# Altium schematic symbol library dcbuddy_lite_v1.SCHLIB: 33 symbols
Pins are listed as number, name and electrical type; pins without a type are passive.

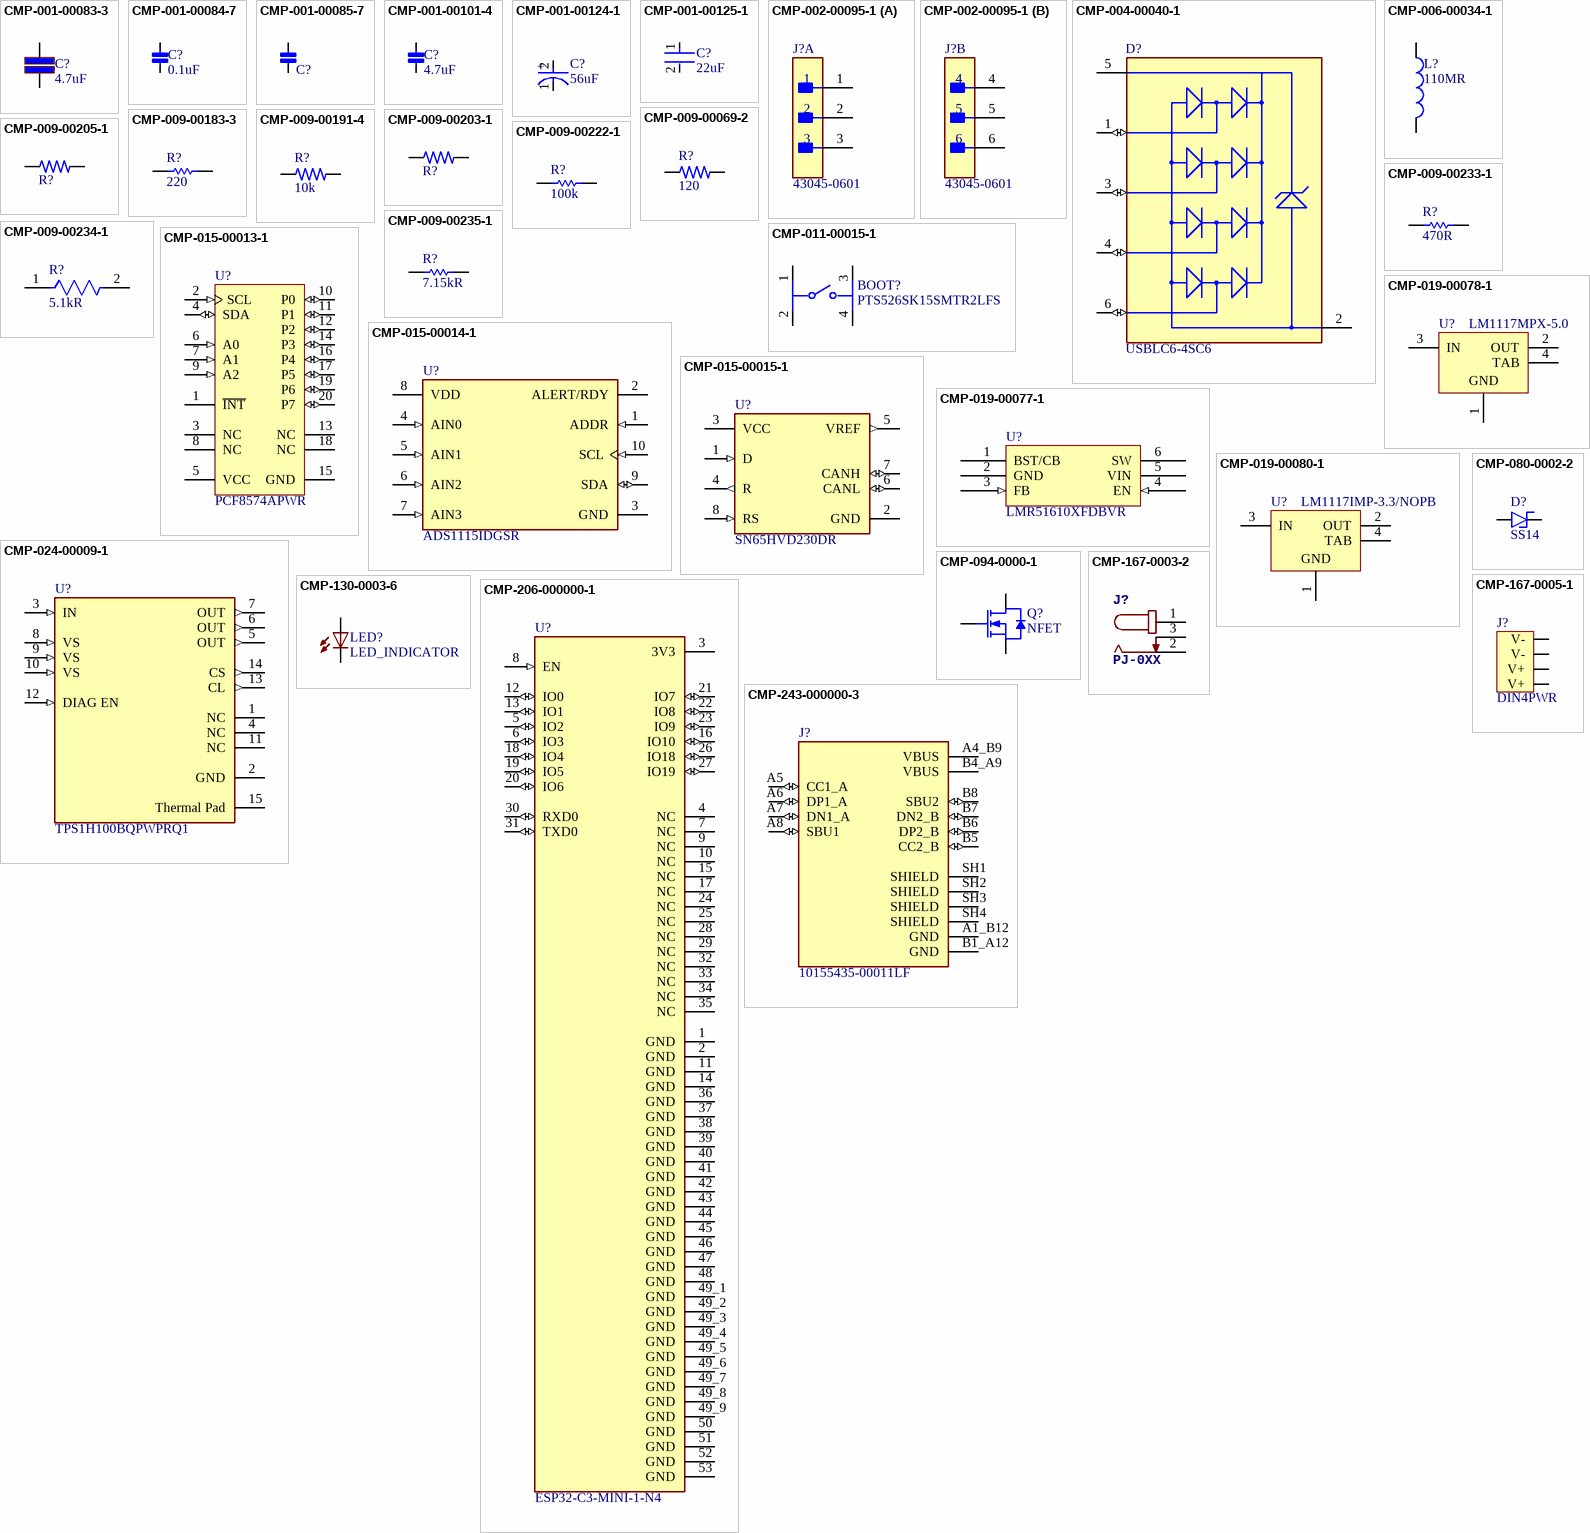
[diagram p0: symbols CMP-001-00083-3 to CMP-243-000000-3]

## CMP-001-00083-3
designator C?, comment value 4.7uF  (hidden comment: CAP 4.7uF 50V X7R 1210)
CAP CER 4.7UF 50V X7R 1210; Manufacturer: Samsung; Manufacturer Part Number: CL32B475KBUYNNE; Tolerance: 10%; Material: Ceramic; Voltage: 50V; Capacitance: 4.7uF; Width: 0.098inch; Height: 1.8mm; Depth: 2.5mm; Package Quantity: 1; Case/Package: 1210; Case Code (Imperial): 1210; Contact Plating: Tin; Thickness: 0.079inch; Radiation Hardening: No; Voltage Rating: 50V; Packaging: Tape and Reel; Lead Free: Lead Free; Dielectric: X7R; Min Operating Temperature: -55°C; Case Code (Metric): 3225; Max Operating Temperature: 125°C; Mount: Surface Mount; Length: 3.2mm; Component Type: Capacitors
footprint CAPC3225X20N (Chip Capacitor, 2-Leads, Body 3.20x2.50mm, IPC Medium Density)
pins: 1, 2

## CMP-001-00084-7
designator C?, comment value 0.1uF  (hidden comment: CAP 0.1uF 50V X7R 0603)
Cap Ceramic 0.1uF 50V X7R 20% SMD 0603 125C Paper T/R; Manufacturer: Samsung; Manufacturer Part Number: CL10B104MB8NNNC; Voltage: 50V; Component Type: Capacitors
footprint FP-CL10-IPC_B
footprint FP-CL10-IPC_A
footprint FP-CL10-IPC_C
pins: 1, 2

## CMP-001-00085-7
designator C?, comment CAP 1uF 10V X7R 0603  (value not drawn)
Cap Ceramic 1uF 10V X7R 10% SMD 0603 125C Paper T/R; Manufacturer: Samsung; Manufacturer Part Number: CL10B105KP8NNNC; Component Type: Capacitors
footprint FP-CL10-IPC_B
footprint FP-CL10-IPC_A
footprint FP-CL10-IPC_C
pins: 1, 2

## CMP-001-00101-4
designator C?, comment value 4.7uF  (hidden comment: CAP 4.7uF 0603 6.3V X7R)
Cap Ceramic 4.7uF 6.3V X7R 10% SMD 0603 125°C Paper T/R; Manufacturer: Samsung; Manufacturer Part Number: CL10B475KQ8NQNC; Component Type: Capacitors
footprint FP-CL10-IPC_C
footprint FP-CL10-IPC_B
footprint FP-CL10-IPC_A
pins: 1, 2

## CMP-001-00124-1
designator C?, comment value 56uF  (hidden comment: CAP 56uF 63V Poly 10mm)
Cap Aluminum 56uF 63V 20% (10 X 10.2mm) SMD 0.03 Ohm 1800mA 5000h 105 C Embossed T/R; Manufacturer: Panasonic; Manufacturer Part Number: EEH-ZA1J560P; Lead Diameter: 0.9mm; Ripple Current: 1.8A; ESR (Equivalent Series Resistance): 30mR; Material: Polymer; Leakage Current: 3uA; Life (Hours): 5000Hour; Tolerance: 20%; Diameter: 10mm; Min Operating Temperature: -55°C; Package Quantity: 500; Max Operating Temperature: 105°C; Voltage Rating (DC): 63V; Lead Pitch: 4.6mm; Ratings: AEC-Q200; Termination: SMD/SMT; Length: 10.2mm; Voltage Rating: 63V; RoHS Compliant: Yes; Ripple Current (AC): 1.8A; Series: ZA; Mounting Technology: Surface Mount,PCB; Height: 10.2mm; Radiation Hardening: No; Case/Package: Radial; Technology: HYBRID; Reach SVHC Compliant: No; Voltage: 63V; Packaging: Tape and Reel; Construction: Cylindrical; Lead Free: Lead Free; Component Type: Capacitors
footprint FP-FKG-MFG
pins: 1 C, 2 A
text: +

## CMP-001-00125-1
designator C?, comment value 22uF  (hidden comment: CAP 22uF 25V 1210 X7R)
1210 22 uF 25 V ±20% Tolerance X7R Multilayer Ceramic Chip Capacitor; Manufacturer: Taiyo Yuden; Manufacturer Part Number: TMK325B7226MM-PR; Tolerance: 20%; Series: M; Max Operating Temperature: 125°C; Min Operating Temperature: -55°C; Case Code (Metric): 3225; Mounting Technology: Surface Mount; Case/Package: 1210; RoHS Compliant: Yes; Voltage Rating: 25V; Packaging: Tape and Reel; Case Code (Imperial): 1210; Component Type: Capacitors
footprint FP-1210-L_3_2_0_3-W_2_5_0-MFG
simulation model TMK325B7226_M-PR
footprint FP-1210-L_3_2_0_3-W_2_5_0-IPC_B
footprint FP-1210-L_3_2_0_3-W_2_5_0-IPC_C
footprint FP-1210-L_3_2_0_3-W_2_5_0-IPC_A
pins: 1, 2

## CMP-002-00095-1
designator J?, comment 43045-0601
Connector Wire to Board Header 6 Position 3 mm Solder Right Angle Thru-Hole Micro-Fit 3.0™; Manufacturer: Molex; RoHS Compliant: Yes; Manufacturer Part Number: 43045-0601; Component Type: Connectors
footprint FP-43045-0601-MFG
part A pins: 1, 2, 3
part B pins: 4, 5, 6

## CMP-004-00040-1
designator D?, comment USBLC6-4SC6
ESD Suppressor 15KV 6-Pin SOT-23 T/R - Product that comes on tape, but is not reeled; Manufacturer: STMicroelectronics; Clamping Voltage-Max: 17V; Direction: Unidirectional; Operating Supply Voltage: 860mV; Max Breakdown Voltage: 10V; Reverse Breakdown Voltage: 6V; Leakage Current: 150nA; Max Reverse Leakage Current: 2uA; Value: 4pF; Power Line Protection: Yes; Peak Pulse Current: 5A; Polarity: Unidirectional,Bidirectional; Number of Channels: 4; Test Current: 1mA; Number of Elements: 1; Voltage Rating (DC): 5V; Max Operating Temperature: 125°C; Termination: SMD/SMT; Case/Package: SOT-23; Reach SVHC Compliant: No; Width: 1.75mm; Lead Free: Lead Free; Packaging: Tape and Reel; Radiation Hardening: No; Length: 3.05mm; Pins: 6; Mounting Technology: Surface Mount; Min Operating Temperature: -40°C; Depth: 1.75mm; ESD Protection: Yes; Clamping Voltage: 17V; RoHS Compliant: Yes; Height: 1.3mm; Series: USB; Min Breakdown Voltage: 6V; Working Voltage: 5V; Breakdown Voltage: 6V; Number of Unidirectional Channels: 4; Reverse Standoff Voltage: 5V; Manufacturer Part Number: USBLC6-4SC6; Component Type: Diodes
footprint FP-SOT23-6L-MFG
footprint FP-SOT23-6L-IPC_C
footprint FP-SOT23-6L-IPC_A
footprint FP-SOT23-6L-IPC_B
pins: 1 I/O1 (io), 2 GND (power), 3 I/O2 (io), 4 I/O3 (io), 5 VBUS (power), 6 I/O4 (io)

## CMP-006-00034-1
designator L?, comment value 110MR  (hidden comment: SRR1260-680M)
Ind Power Shielded Wirewound 68uH 20% 100KHz 22Q-Factor Ferrite 2.1A T/R; Manufacturer: Bourns; Manufacturer: YJYCOIN; Manufacturer Part Number: YSLF1275-680M; Q Factor: 22; Self Resonant Frequency: 7.43MHz; Material: Steel; Current Rating: 2.1A; Height - Seated (Max): 0.256inch; Termination: SMD/SMT; Inductance Tolerance: 20%; Package Quantity: 600; Tolerance: 20%; Max DC Current: 2.1A; Reach SVHC Compliant: No; Min Operating Temperature: -40°C; Test Frequency: 100kHz; Depth: 12.8mm; Saturation Current: 2.1A; Length: 12.5mm; Width: 12.5mm; Case/Package: 1260; RMS Current (Irms): 2.1A; Frequency: 7.43MHz; Mounting Technology: Surface Mount; Packaging: Tape and Reel; Pins: 2; DC Current: 2.1A; Shielding: Shielded; Max Operating Temperature: 125°C; Sample Rate (Hz): 100kHz; DC Resistance (DCR): 110mR; Height: 6mm; RoHS Compliant: Yes; Series: SRR1260; Military Standard: Not; Core Material: Ferrite; Manufacturer Part Number: SRR1260-680M; Component Type: Inductors
footprint SRR1260-680M-Footprint-1
pins: 1, 2

## CMP-009-00069-2
designator R?, comment value 120  (hidden comment: 120R 0603 5%)
120R 0.1W 5% 0603 (1608 Metric)  SMD; Power: 100mW; Tolerance: 5%; Case/Package: 0603; Pins: 2; Mounting Technology: SMT; Component Type: Resistors
footprint RESC1608-IPC-ML (Chip Resistor, 2-Leads, Body 1.60x0.80mm, IPC Low Density)
footprint RESC1608-IPC-NL (Chip Resistor, 2-Leads, Body 1.60x0.80mm, IPC Medium Density)
footprint RESC1608-IPC-LL (Chip Resistor, 2-Leads, Body 1.60x0.80mm, IPC High Density)
pins: 1, 2

## CMP-009-00183-3
designator R?, comment value 220  (hidden comment: 220R 0603 5%)
YAGEO - RC0603JR-07220RL - SMD Chip Resistor, 0603 [1608 Metric], 220 ohm, RC Series, 75 V, Thick Film, 100 mW; Power Rating: 100mW; Working Voltage: 75V; Temperature Coefficient: 100ppm/°C; Voltage Rating (DC): 50V; Military Standard: Not; Resistance: 220R; Case Code (Metric): 1608; Max Operating Temperature: 155°C; Tolerance: 5%; Case/Package: 0603; REACH SVHC: No SVHC; Case Code (Imperial): 0603; Number of Terminations: 2; Termination: SMD/SMT; Min Operating Temperature: -55°C; Packaging: Tape and Reel; Resistor Type: Thick Film; Number of Pins: 2; Depth: 0.8mm; Voltage Rating: 50V; Width: 0.8mm; Lead Free: Lead Free; Length: 1.6mm; Manufacturer: Yageo; Manufacturer Part Number: RC0603JR-07220RL; Component Type: Resistors
footprint RESC1608-IPC-ML (Chip Resistor, 2-Leads, Body 1.60x0.80mm, IPC Low Density)
footprint RESC1608-IPC-NL (Chip Resistor, 2-Leads, Body 1.60x0.80mm, IPC Medium Density)
footprint RESC1608-IPC-LL (Chip Resistor, 2-Leads, Body 1.60x0.80mm, IPC High Density)
pins: 1, 2

## CMP-009-00191-4
designator R?, comment value 10k  (hidden comment: 10K 0603 1%)
Res General Purpose Thick Film 0603 10K Ohm 1% 1/10W ±100ppm/°C Molded SMD Paper T/R; Manufacturer: Yageo; Manufacturer Part Number: RC0603FR-0710KL; Component Type: Resistors
footprint RESC1608-IPC-ML (Chip Resistor, 2-Leads, Body 1.60x0.80mm, IPC Low Density)
footprint RESC1608-IPC-NL (Chip Resistor, 2-Leads, Body 1.60x0.80mm, IPC Medium Density)
footprint RESC1608-IPC-LL (Chip Resistor, 2-Leads, Body 1.60x0.80mm, IPC High Density)
pins: 1, 2

## CMP-009-00203-1
designator R?, comment 100k 0603 1%  (value not drawn)
Res Thick Film 1.6 x 0.8 mm 100K Ohm 1% 0.1W(1/10W) 100ppm/ C Molded SMD Paper T/R; Manufacturer: Yageo; Manufacturer Part Number: RC0603FR-07100KL; Component Type: Resistors
footprint RESC1608-IPC-LL (Chip Resistor, 2-Leads, Body 1.60x0.80mm, IPC High Density)
footprint RESC1608-IPC-ML (Chip Resistor, 2-Leads, Body 1.60x0.80mm, IPC Low Density)
footprint RESC1608-IPC-NL (Chip Resistor, 2-Leads, Body 1.60x0.80mm, IPC Medium Density)
pins: 1, 2

## CMP-009-00205-1
designator R?, comment 4.7k 0603 1%  (value not drawn)
RES SMD 4.7K OHM 1% 1/10W 0603; Manufacturer: Yageo; Manufacturer Part Number: RC0603FR-074K7L; Component Type: Resistors
footprint RESC1608-IPC-LL (Chip Resistor, 2-Leads, Body 1.60x0.80mm, IPC High Density)
footprint RESC1608-IPC-ML (Chip Resistor, 2-Leads, Body 1.60x0.80mm, IPC Low Density)
footprint RESC1608-IPC-NL (Chip Resistor, 2-Leads, Body 1.60x0.80mm, IPC Medium Density)
pins: 1, 2

## CMP-009-00222-1
designator R?, comment value 100k  (hidden comment: 100k 0603 1%)
SMD Chip Resistor, 100 kOhm, ± 1%, 100 mW, 0603 [1608 Metric], Thick Film, General Purpose; Manufacturer: Yageo; Manufacturer Part Number: RC0603FR-13100KL; Voltage Rating: 50V; Case Code (Metric): 1608; Height: 0.45mm; Tolerance: 1%; Width: 0.8mm; Resistance Tolerance: 1%; Case/Package: 0603; Case Code (Imperial): 0603; Component Type: Resistors
footprint RESC1608-IPC-LL (Chip Resistor, 2-Leads, Body 1.60x0.80mm, IPC High Density)
footprint RESC1608-IPC-ML (Chip Resistor, 2-Leads, Body 1.60x0.80mm, IPC Low Density)
footprint RESC1608-IPC-NL (Chip Resistor, 2-Leads, Body 1.60x0.80mm, IPC Medium Density)
pins: 1, 2
1 alternate drawing of the same symbol

## CMP-009-00233-1
designator R?, comment value 470R  (hidden comment: RC0805FR-07470RL)
SMD Chip Resistor, 470 Ohm, ± 1%, 125 mW, 0805 [2012 Metric], Thick Film, General Purpose; Manufacturer: Yageo; Voltage Rating (AC): 150V; Temperature Coefficient: 100ppm/°C; Power Rating: 125mW; Min Operating Temperature: -55°C; Series: RC; Construction: Rectangular; Resistance Tolerance: 1%; Height: 0.5mm; Resistor Type: Thick Film; Pins: 2; Case Code (Imperial): 0805; Depth: 1.25mm; Reach SVHC Compliant: Unknown; Case Code (Metric): 2012; Tolerance: 1%; Max Operating Temperature: 155°C; Termination: SMD/SMT; Length: 2mm; Lead Pitch: 0.4mm; RoHS Compliant: Yes; Case/Package: 0805; Voltage Rating: 150V; Number of Terminations: 2; Features: Moisture Resistant; Packaging: Tape and Reel; Voltage Rating (DC): 150V; Width: 1.25mm; Lead Free: Lead Free; Package Quantity: 5000; Max Power Dissipation: 125mW; Manufacturer Part Number: RC0805FR-07470RL; Component Type: Resistors
footprint RESC2013X60X35LL10T20 (Chip Resistor, 2-Leads, Body 2.1x1.35mm, IPC High Density)
footprint RESC2013X60X35ML10T20 (Chip Resistor, 2-Leads, Body 2.1x1.35mm, IPC Low Density)
footprint RESC2013X60X35NL10T20 (Chip Resistor, 2-Leads, Body 2.1x1.35mm, IPC Medium Density)
pins: 1, 2

## CMP-009-00234-1
designator R?, comment value 5.1kR  (hidden comment: AC0402FR-075K1L)
SMD Chip Resistor, 5.1 kOhm, ± 1%, 63 mW, 0402 [1005 Metric], Thick Film, General Purpose; Manufacturer: Yageo; Power Rating: 63mW; Temperature Coefficient: 100ppm/°C; Voltage Rating: 50V; Height: 0.015inch; Case/Package: 0402; Features: Moisture Resistant,Automotive AEC-Q200; Max Operating Temperature: 155°C; Case Code (Metric): 1005; Max Power Dissipation: 63mW; Width: 0.02inch; Packaging: Cut Tape; Min Operating Temperature: -55°C; Series: AC; Case Code (Imperial): 0402; Mounting Technology: Surface Mount; Tolerance: 1%; Lead Free: Lead Free; Length: 0.039inch; RoHS Compliant: Yes; Number of Terminations: 2; Manufacturer Part Number: AC0402FR-075K1L; Component Type: Resistors
footprint FP-AC0402-IPC_A
footprint FP-AC0402-MFG
footprint FP-AC0402-IPC_B
footprint FP-AC0402-IPC_C
pins: 1, 2

## CMP-009-00235-1
designator R?, comment value 7.15kR  (hidden comment: 7.15k 0603 0.1%)
Res Thin Film 0603 7.15K Ohm 0.1% 1/10W ±25ppm/°C Molded SMD SMD Punched Carrier T/R; Manufacturer: Panasonic; Manufacturer Part Number: ERA-3AEB7151V; Voltage Rating: 75V; Power Rating: 100mW; Number of Terminations: 2; Temperature Coefficient: 25ppm/°C; Weight: 7.1E-05oz; Technology: METAL FILM; Contact Plating: Tin; Features: Automotive AEC-Q200; Height: 0.45mm; Termination: SMD/SMT; Case Code (Imperial): 0603; Pins: 2; Case Code (Metric): 1608; Depth: 0.8mm; Mounting Technology: Surface Mount; Reach SVHC Compliant: No; Packaging: Tape and Reel; Width: 0.8mm; Resistance Tolerance: 0.1%; Resistor Type: Thin Film; Min Operating Temperature: -55°C; Series: ERA; Ratings: AEC-Q200; RoHS Compliant: Yes; Case/Package: 0603; Length: 1.6mm; Package Quantity: 1; Voltage Rating (DC): 75V; Lead Free: Lead Free; Max Operating Temperature: 155°C; Max Power Dissipation: 100mW; Component Type: Resistors
footprint RESC1608X55X30NL20T20 (Chip Resistor, 2-Leads, Body 1.60x0.80mm, IPC Medium Density)
footprint RESC1608X55X30LL20T20 (Chip Resistor, 2-Leads, Body 1.60x0.80mm, IPC High Density)
footprint RESC1608X55X30ML20T20 (Chip Resistor, 2-Leads, Body 1.60x0.80mm, IPC Low Density)
pins: 1, 2
1 alternate drawing of the same symbol

## CMP-011-00015-1
designator BOOT?, comment PTS526SK15SMTR2LFS
Switch Tactile N.O. SPST Round Button Gull Wing 0.05A 12VDC 200000Cycles 2.45N SMD T/R; Manufacturer: XKB Connectivity; Manufacturer Part Number: TS-1187A-B-A-B; Manufacturer: ITT C&K; Contact Current Rating: 50mA; Illumination Type: Non-Illuminated; Contact Resistance: 100mR; Number of Positions: 2; Switch Function: Off-Mom; Actuator Type: Standard; Operating Force: 260gf; Voltage Rating (DC): 12V; Ratings: IP40; Switch Travel: 0.25mm; Max Operating Temperature: 70°C; Mechanical Life: 200000Cycles; Termination: Gull Wing; Throw Configuration: SPST; Series: PTS526; Height: 1.65mm; Mounting Technology: Surface Mount; Min Operating Temperature: -20°C; Manufacturer Part Number: PTS526SK15SMTR2LFS; Component Type: Switches
footprint FP-PTS526SK15SMTR2LFS-MFG
pins: 1, 2, 3, 4

## CMP-015-00013-1
designator U?, comment PCF8574APWR
8-bit 2.5- to 5.5-V I2C/SMBus I/O expander with interrupt 20-TSSOP -40 to 85; Manufacturer: Texas Instruments; Output Current: 25mA; Output Type: PUSH-PULL; Number of Bits: 8; Clock Frequency: 100kHz; Min Supply Voltage: 2.5V; Max Supply Voltage: 6V; Weight: 0.002716oz; Length: 6.5mm; Pins: 20; Reach SVHC Compliant: No; Radiation Hardening: No; Min Operating Temperature: -40°C; Thickness: 1mm; Width: 4.4mm; Case/Package: TSSOP; Packaging: Tape and Reel; Termination: SMD/SMT; Lead Free: Lead Free; RoHS Compliant: Yes; Frequency: 100kHz; Number of Outputs: 8; Package Quantity: 2000; Max Operating Temperature: 85°C; Series: -; Number of I/Os: 8; Manufacturer Part Number: PCF8574APWR; Component Type: Interface
footprint PW0020A_L (SOP, 20-Leads, Body 6.6x4.5mm, Pitch 0.65mm, IPC High Density)
footprint PW0020A_N (SOP, 20-Leads, Body 6.6x4.5mm, Pitch 0.65mm, IPC Medium Density)
footprint PW0020A_M (SOP, 20-Leads, Body 6.6x4.5mm, Pitch 0.65mm, IPC Low Density)
pins: 1 ~{INT} (oc), 2 SCL (in), 3 NC, 4 SDA (io), 5 VCC (power), 6 A0 (in), 7 A1 (in), 8 NC, 9 A2 (in), 10 P0 (io), 11 P1 (io), 12 P2 (io), 13 NC, 14 P3 (io), 15 GND (power), 16 P4 (io), 17 P5 (io), 18 NC, 19 P6 (io), 20 P7 (io)

## CMP-015-00014-1
designator U?, comment ADS1115IDGSR
4-Channel Single ADC Delta-Sigma 860sps 16-bit Serial 10-Pin VSSOP T/R; Manufacturer: Texas Instruments; Sampling Rate: 860S/s; Min Supply Voltage: 2V; Number of Inputs: 4; Number of Channels: 2; Power Dissipation: 900uW; Number of Bits: 16; Max Supply Voltage: 5.5V; Number of Converters: 1; Conversion Rate: 0.86KS/s; Integral Nonlinearity (INL): 1LSB; Polarity: Bipolar; Nominal Supply Current: 150uA; Resolution: 16b; Interface: I2C; Max Operating Temperature: 125°C; Thickness: 1.02mm; Supply Type: Single; RoHS Compliant: Yes; Length: 3mm; Min Operating Temperature: -40°C; Package Quantity: 2500; Series: -; Lead Free: Lead Free; Contact Plating: Gold; Min Supply Voltage (DC): 2V; Height: 1.07mm; Case/Package: VSSOP; Width: 3mm; Packaging: Tape and Reel; Number of A/D Converters: 1; Pins: 10; Max Supply Voltage (DC): 5.5V; Reach SVHC Compliant: No; Manufacturer Part Number: ADS1115IDGSR; Component Type: Interface
footprint FP-DGS0010A-IPC_A
footprint FP-DGS0010A-MFG
footprint FP-DGS0010A-IPC_B
footprint FP-DGS0010A-IPC_C
pins: 1 ADDR (in), 2 ALERT/RDY (oc), 3 GND (power), 4 AIN0 (in), 5 AIN1 (in), 6 AIN2 (in), 7 AIN3 (in), 8 VDD (power), 9 SDA (io), 10 SCL (in)

## CMP-015-00015-1
designator U?, comment SN65HVD230DR
EAR99 65HVD230 Cut Tape (CT) CANbus interface driver 3.3V 17mA 72.603129mg 1Mbps; Manufacturer: Texas Instruments; Number of Transceivers: 1; Slew Rate: 15V/µs; Number of I/Os: 2; Min Supply Voltage: 3V; Max Supply Voltage: 3.6V; Supply Current: 17mA; Number of Drivers: 1; Lead Free: Lead Free; Min Operating Temperature: -40°C; Data Rate: 1Mbps; Series: -; RoHS Compliant: Yes; Packaging: Tape and Reel; Termination: SMD/SMT; Max Operating Temperature: 85°C; Length: 4.9mm; Pins: 8; Thickness: 1.58mm; Height: 1.75mm; Width: 3.91mm; Radiation Hardening: No; Number of Receivers: 1; Weight: 0.002561oz; Number of Transmit Buffers: 1; Package Quantity: 1; Case/Package: D; Operating Supply Voltage: 3.3V; Reach SVHC Compliant: No; Number of Receive Buffers: 1; Manufacturer Part Number: SN65HVD230DR; Component Type: Interface
footprint FP-D0008A-IPC_B
footprint FP-D0008A-IPC_A
footprint FP-D0008A-MFG
footprint FP-D0008A-IPC_C
pins: 1 D (in), 2 GND (power), 3 VCC (power), 4 R (out), 5 VREF (out), 6 CANL (io), 7 CANH (io), 8 RS (in)

## CMP-019-00077-1
designator U?, comment LMR51610XFDBVR
SIMPLE SWITCHER® power converter with 4.5V-to-65V 1A synchronous buck and 25µA quiescent current 6-SOT-23 -40 to 150; Manufacturer: Texas Instruments; Manufacturer Part Number: LMR51610XFDBVR; Component Type: Power Supply
footprint SOT95P280X145-6N (SOT23, 6-Leads, Body 2.90x2.80mm, Pitch 0.95mm, IPC Medium Density)
pins: 1 BST/CB, 2 GND (power), 3 FB (in), 4 EN (in), 5 VIN (power), 6 SW

## CMP-019-00078-1
designator U?, comment LM1117MPX-5.0
LDO Regulator Pos 5V 0.8A 4-Pin(3+Tab) SOT-223 T/R; Manufacturer: TI National Semiconductor; Manufacturer: Advanced Monolithic Systems; Manufacturer Part Number: AMS1117-5.0; Min Supply Voltage: 6.5V; Power Supply Rejection Ratio (PSRR): 75dB; Quiescent Current: 10mA; Dropout Voltage: 1.2V; Min Input Voltage: 2.6V; Output Current: 800mA; Number of Outputs: 1; Accuracy: 1%; Output Type: Fixed; Output Configuration: Positive; Max Supply Voltage: 15V; Current Rating: 800A; Case/Package: SOT-223; Min Operating Temperature: 0°C; Termination: SMD/SMT; Max Operating Temperature: 125°C; Reach SVHC Compliant: No; Lead Free: Contains Lead; Max Output current: 800mA; Mounting Technology: Surface Mount; Output Voltage: 5V; Packaging: Tape and Reel; Max Output Voltage: 5V; Max Supply Current: 10mA; Output Voltage Accuracy: 1%; Series: -; Pins: 4; Number of Regulators: 1; Polarity: Positive; RoHS Compliant: No; Manufacturer Part Number: LM1117MPX-5.0; Component Type: Power Supply
footprint DCY0004A_M (SOT223, 4-Leads, Body 6.7x3.7mm, Pitch 2.3mm, IPC Low Density)
footprint DCY0004A_L (SOT223, 4-Leads, Body 6.7x3.7mm, Pitch 2.3mm, IPC High Density)
footprint DCY0004A_N (SOT223, 4-Leads, Body 6.7x3.7mm, Pitch 2.3mm, IPC Medium Density)
pins: 1 GND (power), 2 OUT (power), 3 IN (power), 4 TAB (power)

## CMP-019-00080-1
designator U?, comment LM1117IMP-3.3/NOPB
LDO Regulator Pos 3.3V 0.8A 4-Pin(3+Tab) SOT-223 T/R / IC REG LDO 3.3V 0.8A SOT223; Manufacturer: Texas Instruments; Quiescent Current: 15mA; Min Input Voltage: 2.6V; Max Output current: 800mA; Number of Channels: 1; Accuracy: 1%; Min Supply Voltage: 4.75V; Dropout Voltage: 1.2V; Polarity: Positive; Current Rating: 800A; Max Supply Voltage: 10V; Output Type: Fixed; Package Quantity: 1000; Termination: SMD/SMT; Pins: 4; Length: 6.5mm; Nominal Output Voltage: 3.3V; RoHS Compliant: Yes; Height: 1.6mm; Output Voltage Accuracy: 1%; Reach SVHC Compliant: No; Number of Outputs: 1; Lead Free: Lead Free; Min Current Limit: 800mA; Case/Package: SOT-223; Width: 3.56mm; Output Current: 800mA; Radiation Hardening: No; Thickness: 1.6mm; Packaging: Tape and Reel; Min Operating Temperature: -40°C; Number of Regulators: 1; Output Voltage: 3.3V; Max Operating Temperature: 125°C; Mounting Technology: Surface Mount; Manufacturer Part Number: LM1117IMP-3.3/NOPB; Component Type: Power Supply
footprint DCY0004A_M (SOT223, 4-Leads, Body 6.7x3.7mm, Pitch 2.3mm, IPC Low Density)
footprint DCY0004A_L (SOT223, 4-Leads, Body 6.7x3.7mm, Pitch 2.3mm, IPC High Density)
footprint DCY0004A_N (SOT223, 4-Leads, Body 6.7x3.7mm, Pitch 2.3mm, IPC Medium Density)
pins: 1 GND (power), 2 OUT (power), 3 IN (power), 4 TAB (power)

## CMP-024-00009-1
designator U?, comment TPS1H100BQPWPRQ1
Current Limit SW 1-IN 1-OUT 5V to 40V 4A Automotive 14-Pin HTSSOP EP T/R; Manufacturer: Texas Instruments; Number of Channels: 1; Min Supply Voltage: 3.5V; Output Configuration: High Side; Interface: On/Off; Fault Protection: Over Temperature; Packaging: Cut Tape; Max Supply Voltage: 40V; Lead Free: Lead Free; Max Operating Temperature: 125°C; Number of Outputs: 1; Height: 1.2mm; Length: 5mm; Pins: 14; Thickness: 1mm; RoHS Compliant: Yes; Min Operating Temperature: -40°C; Case/Package: HTSSOP; Width: 4.4mm; Series: Automotive, AEC-Q100; Max Output current: 4A; Manufacturer Part Number: TPS1H100BQPWPRQ1; Component Type: Drivers
footprint FP-PWP0014C-IPC_C
footprint FP-PWP0014C-IPC_B
footprint FP-PWP0014C-MFG
footprint FP-PWP0014C-IPC_A
pins: 1 NC, 2 GND (power), 3 IN (in), 4 NC, 5 OUT (out), 6 OUT (out), 7 OUT (out), 8 VS (in), 9 VS (in), 10 VS (in), 11 NC, 12 DIAG EN (in), 13 CL (out), 14 CS (out), 15 Thermal Pad

## CMP-080-0002-2
designator D?, comment SS14
Manufacturer: ON Semiconductor; Manufacturer Part Number: SS16T3G; Source: diode.SCHLIB; Design Item ID: DIODE_SCHOTTKY; Component Type: Diodes
footprint DO220AA
footprint SOD123
footprint DO41-10
footprint DO41-7
footprint SMC
footprint SMA
footprint SMB
pins: A (power), K (power)

## CMP-094-0000-1
designator Q?, comment NFET
Design Item ID: NFET; Source: fet.SchLib; Component Type: Transistors
footprint SOT23-3
footprint TO263-3 (Infineon)
footprint SC-89-3
pins: 1 G, 2 S, 3 D

## CMP-130-0003-6
designator LED?, comment LED_INDICATOR
Source: led.SchLib; Design Item ID: LED_INDICATOR; Component Type: LED
footprint LED_1206_BottomEntry
footprint KINGBRIGHT_APA
footprint LTL-553-11
footprint 2mmx5mm Rect
footprint 2mmx5mm Board level 50mil
footprint LED5MM
pins: A, C

## CMP-167-0003-2
designator J?, comment PJ-0XX
2.0 x 6.5 mm, 2.5 A, Horizontal, Through Hole, Dc Power Jack Connector; Manufacturer: CUI; Manufacturer Part Number: PJ-002A; Manufacturer: XKB Connectivity; Manufacturer Part Number: DC-005K-5A-2.0; Design Item ID: PJ-0XX; Source: con-jack.SCHLIB; Component Type: Connectors
footprint PJ-018H
footprint PJ-036AH
footprint PJ-007
footprint CUI-PJ-002A_V (THD, 3-Leads, Body 14.4x9mm, Height 11mm)
pins: 1, 2, 3

## CMP-167-0005-1
designator J?, comment DIN4PWR
Design Item ID: DIN4PWR; Source: con-jack.SCHLIB; Component Type: Connectors
footprint PD40S
pins: 1 V- (power), 2 V+ (power), 3 V- (power), 4 V+ (power)

## CMP-206-000000-1
designator U?, comment ESP32-C3-MINI-1-N4
Bluetooth, WiFi 802.11b/g/n, Bluetooth v5.0 Transceiver Module 2.412GHz ~ 2.484GHz PCB Trace Surface Mount; MF: Espressif Systems; Availability: In Stock; Purchase-URL: https://pricing.snapeda.com/search/part/ESP32-C3-MINI-1-N4/?ref=eda; MP: ESP32-C3-MINI-1-N4; Source: ESP32-C3-MINI-1-N4.SchLib; Check_prices: https://www.snapeda.com/parts/ESP32-C3-MINI-1-N4/Espressif+Systems/view-part/?ref=eda; Pin Count: 61; Design Item ID: ESP32-C3-MINI-1-N4; Price: None; Component Type: Standard; Package: SMD-53 Espressif Systems; SnapEDA_Link: https://www.snapeda.com/parts/ESP32-C3-MINI-1-N4/Espressif+Systems/view-part/?ref=snap; Value: *; Component Type: Wireless
footprint XCVR_ESP32-C3-MINI-1-N4
pins: 1 GND (power), 2 GND (power), 3 3V3 (power), 4 NC, 5 IO2 (io), 6 IO3 (io), 7 NC, 8 EN (in), 9 NC, 10 NC, 11 GND (power), 12 IO0 (io), 13 IO1 (io), 14 GND (power), 15 NC, 16 IO10 (io), 17 NC, 18 IO4 (io), 19 IO5 (io), 20 IO6 (io), 21 IO7 (io), 22 IO8 (io), 23 IO9 (io), 24 NC, 25 NC, 26 IO18 (io), 27 IO19 (io), 28 NC, 29 NC, 30 RXD0 (io), 31 TXD0 (io), 32 NC, 33 NC, 34 NC, 35 NC, 36 GND (power), 37 GND (power), 38 GND (power), 39 GND (power), 40 GND (power), 41 GND (power), 42 GND (power), 43 GND (power), 44 GND (power), 45 GND (power), 46 GND (power), 47 GND (power), 48 GND (power), 49_1 GND (power), 49_2 GND (power), 49_3 GND (power), 49_4 GND (power), 49_5 GND (power), 49_6 GND (power), 49_7 GND (power), 49_8 GND (power), 49_9 GND (power), 50 GND (power), 51 GND (power), 52 GND (power), 53 GND (power)

## CMP-243-000000-3
designator J?, comment 10155435-00011LF
16 Position 5 A USB Right Angle Receptacle Connector; Manufacturer: Amphenol Communications Solutions; MF: Amphenol ICC (FCI); MP: 10155435-00011LF; Availability: Unavailable; Design Item ID: 10155435-00011LF; Source: 10155435-00011LF.SchLib; Price: None; Package: None; Component Type: Standard; Value: *; Pin Count: 16; Manufacturer Part Number: 10155435-00011LF; Component Type: Connectors
footprint AMPHENOL_10155435-00011LF
pins: A1_B12 GND (power), A4_B9 VBUS (power), A5 CC1_A (io), A6 DP1_A (io), A7 DN1_A (io), A8 SBU1 (io), B1_A12 GND (power), B4_A9 VBUS (power), B5 CC2_B (io), B6 DP2_B (io), B7 DN2_B (io), B8 SBU2 (io), SH1 SHIELD, SH2 SHIELD, SH3 SHIELD, SH4 SHIELD